# EAGLE library part SMDTOP-6 (library con-amp1)
AMP connector
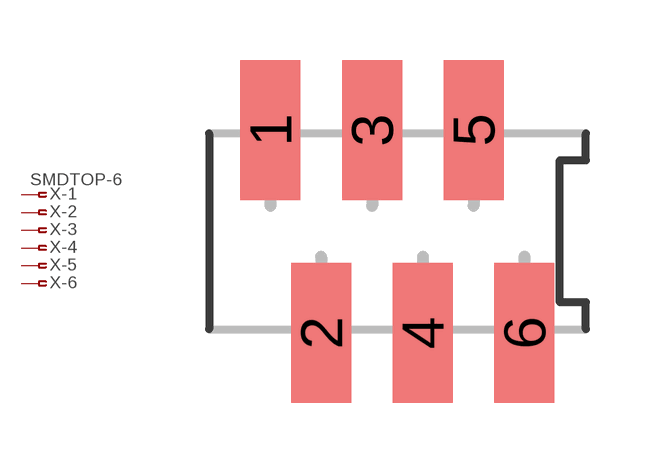
[diagram p109: symbol with the pads of SMDTOP6; footprint SMDTOP6]

Designator prefix X; gates -1=PIN-FV -2=PIN-F -3=PIN-F -4=PIN-F -5=PIN-F -6=PIN-F

## SMDTOP-6  [SMDTOP6]
1  -1:1  pas
2  -2:1  pas
3  -3:1  pas
4  -4:1  pas
5  -5:1  pas
6  -6:1  pas

## Footprint SMDTOP6 (pad centres in mm)
AMP connector
smd 1.5 x 3.5: 1 -3.175,2.54; 2 -1.905,-2.54; 3 -0.635,2.54; 4 0.635,-2.54; 5 1.905,2.54; 6 3.175,-2.54